# Altium schematic symbol library Relay-DPDT.Schlib: 1 symbol
Pins are listed as number, name and electrical type; pins without a type are passive.

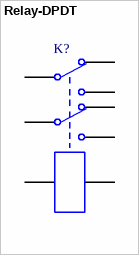
[diagram p0: symbol Relay-DPDT]

## Relay-DPDT
designator K?
Dual-Pole Dual-Throw Relay
pins: 1, 2, 3, 4, 5, 6, 7, 8